# Altium schematic symbol library Schlib1.SchLib: 2 symbols
Pins are listed as number, name and electrical type; pins without a type are passive.

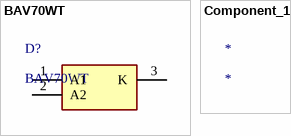
[diagram p0: symbols BAV70WT to Component_1]

## BAV70WT
designator D?
200mW Switching,75V,150mA
pins: 1 A1, 2 A2, 3 K

## Component_1
designator *